# EAGLE library part MICROSD_CONN_8_SD-MICRO-SCHA5B0 (library BeagleBone_Black_egl)
MICROSD_CONN_8_SD-MICRO-SCHA5B0
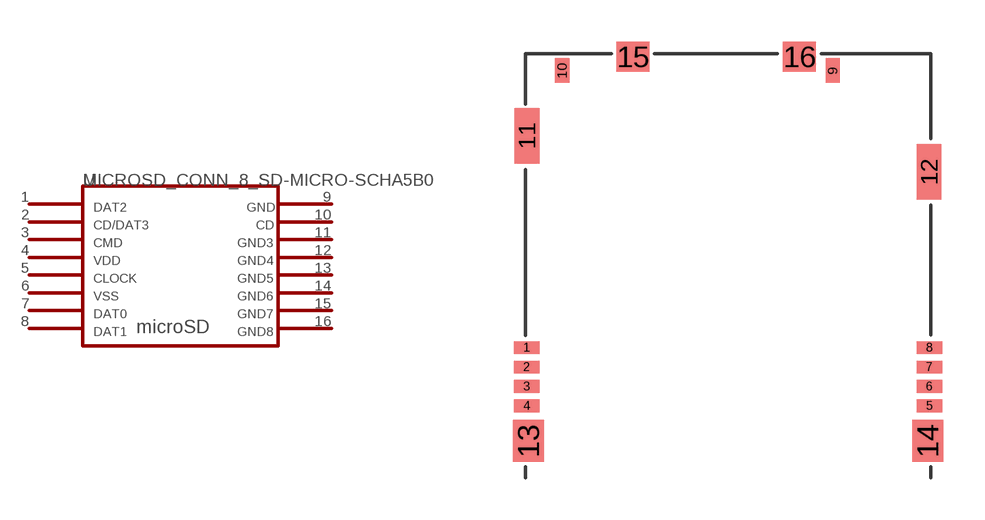
[diagram p13: symbol with the pads of SD-MICRO-SCHA5B0300; footprint SD-MICRO-SCHA5B0300]

Designator prefix -

## MICROSD_CONN_8_SD-MICRO-SCHA5B0  [SD-MICRO-SCHA5B0300]
1  1
2  2
3  3
4  4
5  5
6  6
7  7
8  8
9  9
10  10
11  11
12  12
13  13
14  14
15  15
16  16

## Footprint SD-MICRO-SCHA5B0300 (pad centres in mm)
smd 0.914 x 0.457: 1 -7.257,0; 2 -7.257,-0.7; 3 -7.257,-1.4; 4 -7.257,-2.1; 5 7.257,-2.1; 6 7.257,-1.4; 7 7.257,-0.7; 8 7.257,0
smd 0.508 x 0.889: 9 3.775,9.989; 10 -5.975,9.989
smd 0.889 x 2.007: 11 -7.25,7.635; 12 7.25,6.335
smd 1.118 x 1.524: 13 -7.196,-3.365; 14 7.196,-3.365
smd 1.194 x 1.092: 15 -3.425,10.488; 16 2.575,10.488